# Altium footprint library LEDs.PcbLib: 54 footprints (part 4 of 4)
Each footprint in its own frame and in the unit in brackets; x right, y up, seen from the top. Pads: shape width x height; smd on the part's side, far side on the other; paste and mask are expansions set on the pad; w line width, h text height; cw(c..) or ccw(c..) is an arc to the next point about the centre after c.
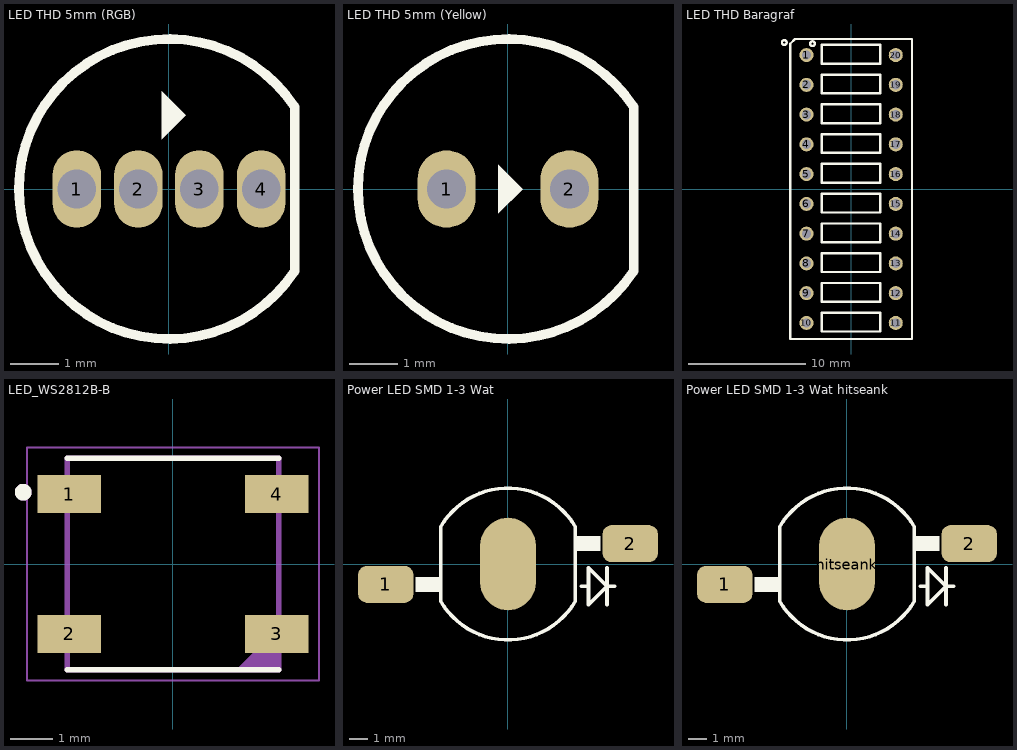
[diagram p3: the footprints below, top view; thin cyan lines are the x and y axes]

## LED THD 5mm (RGB) [mm]
pads (4):
  oval 1x1.6 hole 0.8 mask+0.1: 1(-1.905,0) 2(-0.635,0) 3(0.627,0) 4(1.905,0)
Top Overlay:
  region: -0.149,2.024 -0.149,1.024 0.351,1.524
  lines w0.2: 2.6,-1.7 2.6,1.7 ; 2.6,-1.688 cw(c0,0) 2.6,1.688
3D body "User Library-LED RGB.step": height 9.6, standoff -5, extent -2.827,-2.949 2.627,2.949

## LED THD 5mm (Yellow) [mm]
pads (2):
  oval 1.2x1.6 hole 0.8: 1(-1.27,0) 2(1.27,0)
Top Overlay:
  region: -0.2,0.5 -0.2,-0.5 0.3,0
  lines w0.2: 2.6,-1.7 2.6,1.7 ; 2.6,-1.688 cw(c0,0) 2.6,1.688
3D body "LED-D5Y.step": height 9.14, standoff -6.3, extent -3,-3 2.5,3

## LED THD Baragraf [mm]
pads (20):
  round 1.2 / inner round 1.2 / far side oval 2x1.2 hole 0.8: 1(-3.81,11.43) 2(-3.81,8.89) 3(-3.81,6.35) 4(-3.81,3.81) 5(-3.81,1.27) 6(-3.81,-1.27) 7(-3.81,-3.81) 8(-3.81,-6.35) 9(-3.81,-8.89) 10(-3.81,-11.43) 11(3.81,-11.43) 12(3.81,-8.89) 13(3.81,-6.35) 14(3.81,-3.81) 15(3.81,-1.27) 16(3.81,1.27) 17(3.81,3.81) 18(3.81,6.35) 19(3.81,8.89) 20(3.81,11.43)
Top Overlay:
  circle w0.2: c-3.3,12.4 r0.2
  circle w0.2: c-5.7,12.5 r0.2
  lines w0.2: -5.2,-12.8 5.2,-12.8 5.2,12.8 -4.8,12.8 -5.2,12.4 -5.2,-12.8 ; -2.5,-12.16 -2.5,-10.56 2.5,-10.56 2.5,-12.16 -2.5,-12.16 ; -2.5,-9.62 -2.5,-8.02 2.5,-8.02 2.5,-9.62 -2.5,-9.62 ; -2.5,-7.08 -2.5,-5.48 2.5,-5.48 2.5,-7.08 -2.5,-7.08 ; -2.5,-4.54 -2.5,-2.94 2.5,-2.94 2.5,-4.54 -2.5,-4.54 ; -2.5,-2 -2.5,-0.4 2.5,-0.4 2.5,-2 -2.5,-2 ; -2.5,0.54 -2.5,2.14 2.5,2.14 2.5,0.54 -2.5,0.54 ; -2.5,3.08 -2.5,4.68 2.5,4.68 2.5,3.08 -2.5,3.08 ; -2.5,5.62 -2.5,7.22 2.5,7.22 2.5,5.62 -2.5,5.62 ; -2.5,8.16 -2.5,9.76 2.5,9.76 2.5,8.16 -2.5,8.16 ; -2.5,10.7 2.5,10.7 2.5,12.3 -2.5,12.3 -2.5,10.7
3D body "User Library-LED_BAR_10.step": height 6.8, standoff -7, extent -5.08,-12.7 5.08,12.7

## LED_WS2812B-B [mm]
pads (4):
  rect 1.5x0.9 smd: 1(-2.45,1.65) 2(-2.45,-1.65) 3(2.45,-1.65) 4(2.45,1.65)
Top Overlay:
  circle w0.2: c-3.538,1.696 r0.1
  lines w0.127: -2.5,-2.5 2.5,-2.5 ; -2.5,2.5 2.5,2.5
Mechanical 13:
  circle w0.2: c-3.538,1.696 r0.1
  region: 2.5,-2.5 1.5,-2.5 2.5,-1.5
  lines w0.127: -2.5,-2.5 -2.5,2.5 2.5,2.5 2.5,-2.5 -2.5,-2.5
Mechanical 15:
  lines w0.05: -3.45,-2.75 3.45,-2.75 3.45,2.75 -3.45,2.75 -3.45,-2.75
3D body "WS2812B.step": height 1.59, standoff 0.02, extent -2.573,-2.5 2.827,2.5

## Power LED SMD 1-3 Wat [mm]
pads (3):
  rrect50% 3x2 smd: 1(-6.6,-1.1) 2(6.6,1.1)
  oval 3x5 smd: ""(0,0)
Top Overlay:
  rectangle: 3.638,0.7 5,1.5
  region: -3.637,-0.7 -5,-0.7 -5,-1.5 -3.637,-1.5
  lines w0.2: 3.95,-1.2 4.35,-1.2 ; 5.35,-2.2 5.35,-0.2 ; 5.75,-1.2 5.35,-1.2 ; 5.35,-1.2 4.35,-0.2 4.35,-2.2 5.35,-1.2 ; -3.637,-2 ccw(c0,0.1) 3.637,-2 3.637,2 ccw(c0,-0.1) -3.637,2 -3.637,-2
3D body "SW3dPS-Power LED2.STEP": height 5.55, standoff 0, extent -7.25,-4 7.25,4

## Power LED SMD 1-3 Wat hitseank [mm]
pads (3):
  rrect50% 3x2 smd: 1(-6.6,-1.1) 2(6.6,1.1)
  oval 3x5 smd: hitseank(0,0)
Top Overlay:
  region: -3.637,-0.7 -5,-0.7 -5,-1.5 -3.637,-1.5
  rectangle: 3.638,0.7 5,1.5
  lines w0.2: 3.95,-1.2 4.35,-1.2 ; 5.35,-2.2 5.35,-0.2 ; 5.75,-1.2 5.35,-1.2 ; 5.35,-1.2 4.35,-2.2 4.35,-0.2 5.35,-1.2 ; -3.637,-2 ccw(c0,0.1) 3.637,-2 3.637,2 ccw(c0,-0.1) -3.637,2 -3.637,-2
3D body "SW3dPS-Power LED2.STEP": height 5.55, standoff 0, extent -7.25,-4 7.25,4